# Altium footprint library 532610371.PcbLib: 1 footprints
Each footprint in its own frame and in the unit in brackets; x right, y up, seen from the top. Pads: shape width x height; smd on the part's side, far side on the other; paste and mask are expansions set on the pad; w line width, h text height; cw(c..) or ccw(c..) is an arc to the next point about the centre after c.
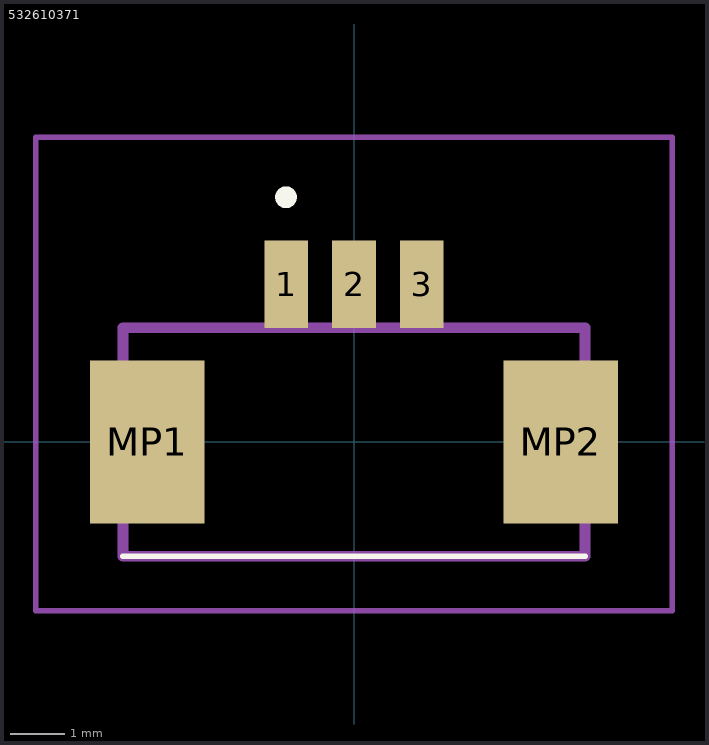
[diagram p0: the footprint, top view; thin cyan lines are the x and y axes]

## 532610371 [mm]
pads (5):
  rect 0.8x1.6 smd: 1(-1.25,2.9) 2(0,2.9) 3(1.25,2.9)
  rect 2.1x3 smd: MP1(-3.8,0) MP2(3.8,0)
Top Overlay:
  lines w0.1: -4.25,-2.1 4.25,-2.1
  lines w0.2: -1.25,4.4 -1.25,4.4 ; -1.25,4.4 ccw(c-1.25,4.5) -1.25,4.6 ; -1.25,4.4 cw(c-1.25,4.5) -1.25,4.6 ; -1.25,4.6 -1.25,4.6
Mechanical 15:
  lines w0.2: -4.25,-2.1 4.25,-2.1 4.25,2.1 -4.25,2.1 -4.25,-2.1
Mechanical 20:
  lines w0.1: -5.85,-3.1 5.85,-3.1 5.85,5.6 -5.85,5.6 -5.85,-3.1